# Altium footprint library L-1334GT.PcbLib: 1 footprints
Each footprint in its own frame and in the unit in brackets; x right, y up, seen from the top. Pads: shape width x height; smd on the part's side, far side on the other; paste and mask are expansions set on the pad; w line width, h text height; cw(c..) or ccw(c..) is an arc to the next point about the centre after c.
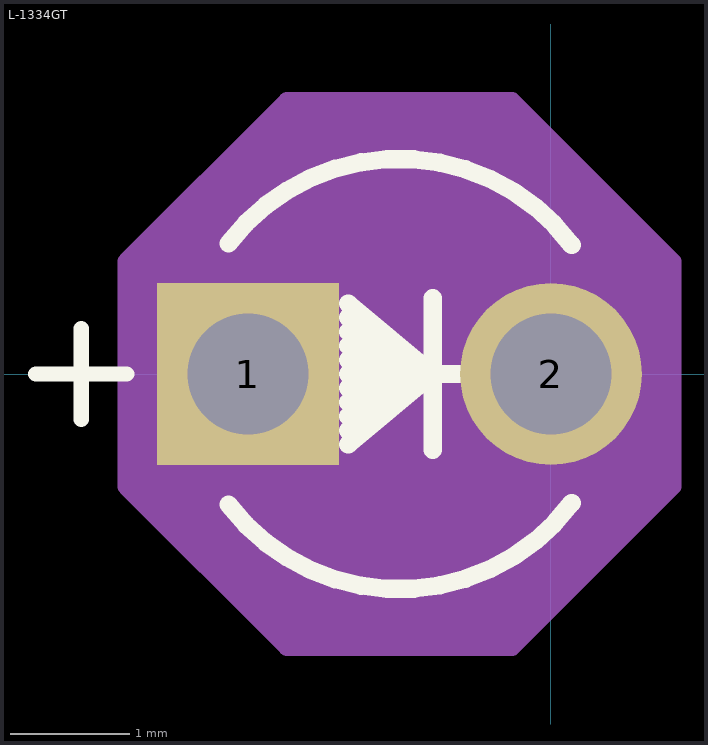
[diagram p0: the footprint, top view; thin cyan lines are the x and y axes]

## L-1334GT [mil]
pads (2):
  rect 60x60 hole 40 paste-99999 mask-30: 1(-100,0)
  round 60 hole 40 paste-99999 mask-30: 2(0,0)
Top Overlay:
  lines w5: -170,0 -140,0 -152.5,0 ; -155,-15 -155,15
  lines w6: -106.42,-43.1 ccw(c-50,0) 6.83,-42.55 ; -106.42,43.1 cw(c-50,0) 6.83,42.55 ; -66.9,-23.25 -39,0 ; -66.9,-18.6 -39,0 ; -66.9,-13.95 -39,0 ; -66.9,-9.3 -39,0 ; -66.9,-4.65 -39,0 ; -66.9,0 -29,0 ; -66.9,4.65 -39,0 ; -66.9,9.3 -39,0 ; -66.9,13.95 -39,0 ; -66.9,18.6 -39,0 ; -66.9,23.25 -39,0 ; -39,-25 -39,25
Mechanical 13:
  circle w1: c-50,0 r66
  lines w1: -141,-25 -141,25 ; -79,0 -29,0 ; -69,-25 -39,0 ; -69,-20 -39,0 ; -69,-15 -39,0 ; -69,-10 -39,0 ; -69,-5 -39,0 ; -69,5 -39,0 ; -69,10 -39,0 ; -69,15 -39,0 ; -69,20 -39,0 ; -69,25 -39,0 ; -39,-25 -39,25
Mechanical 15:
  region: -140,37.06 -87.06,90 -12.94,90 40,37.06 40,-37.06 -12.94,-90 -87.06,-90 -140,-37.06
  lines w6: -140,-37.06 -87.06,-90 -12.94,-90 40,-37.06 40,37.06 -12.94,90 -87.06,90 -140,37.06 -140,-37.06
3D body "LED_TLH.step": height 289.61, standoff -90, extent -117.47,-65.52 15,65.52